# EAGLE library part 0900BL18B100 (library johanson-tech)
900 MHz Balun
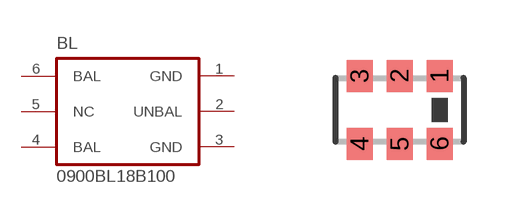
[diagram p0: symbol with the pads of 0900BL18B100; footprint 0900BL18B100]

Designator prefix BL

## 0900BL18B100  [0900BL18B100]
1  GND  pas
2  UNBAL  pas
3  GND  pas
4  BAL  pas
5  NC  pas
6  BAL  pas

## Footprint 0900BL18B100 (pad centres in mm)
900 MHz Balun
smd 0.65 x 0.8: 1 1,0.85; 2 0,0.85; 3 -1,0.85; 4 -1,-0.85; 5 0,-0.85; 6 1,-0.85